# Altium footprint library common.PcbLib: 93 footprints (part 2 of 6)
Each footprint in its own frame and in the unit in brackets; x right, y up, seen from the top. Pads: shape width x height; smd on the part's side, far side on the other; paste and mask are expansions set on the pad; w line width, h text height; cw(c..) or ccw(c..) is an arc to the next point about the centre after c.
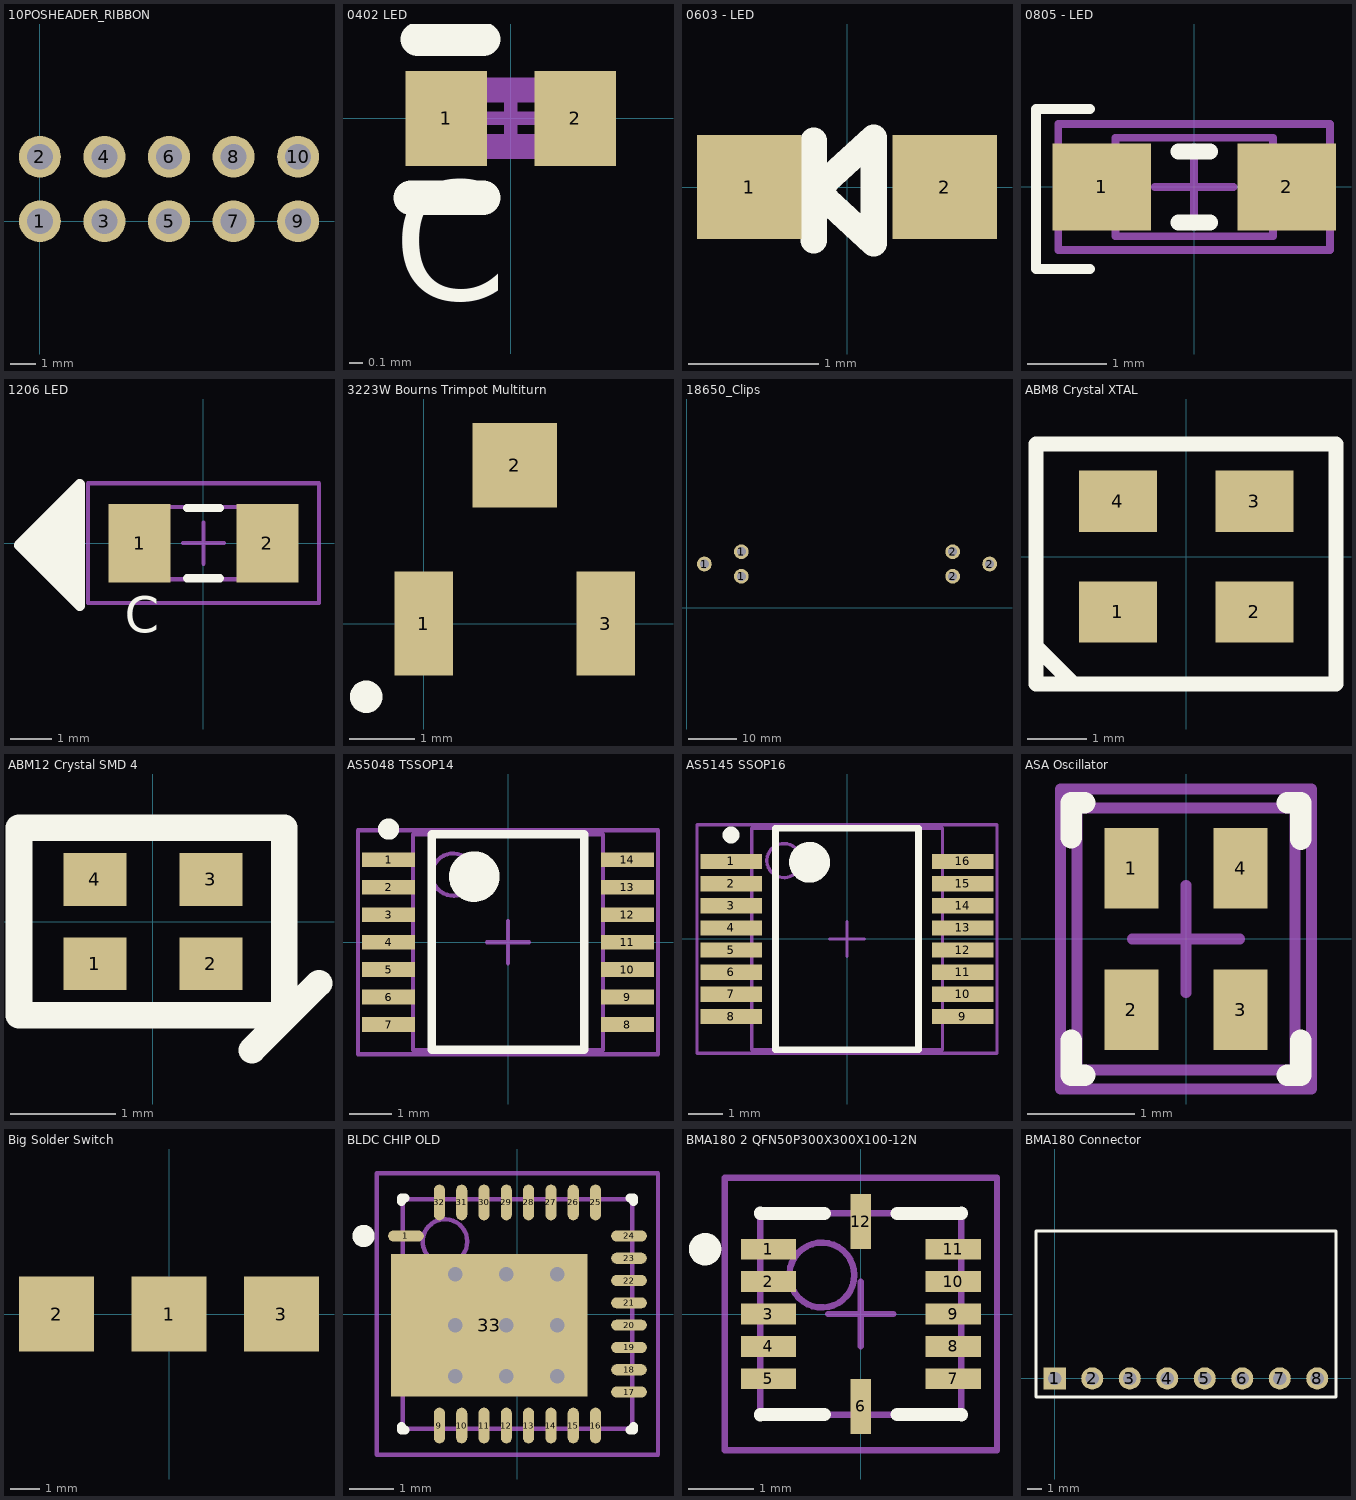
[diagram p1: the footprints below, top view; thin cyan lines are the x and y axes]

## 10POSHEADER_RIBBON [mm] "CONN HEADER 10POS Keyed Ribbon"
height 9
pads (10):
  round 1.65 hole 1.02: 1(0,0) 2(0,2.54) 3(2.54,0) 4(2.54,2.54) 5(5.08,0) 6(5.08,2.54) 7(7.62,0) 8(7.62,2.54) 9(10.16,0) 10(10.16,2.54)
3D body: height 9.02, standoff -3.13, extent -5.11,-3.057 15.24,5.943

## 0402 LED [mm] "0402 LED Package"
height 0.25
pads (2):
  rect 0.6x0.7 smd: 1(-0.475,0) 2(0.475,0)
Top Overlay:
  lines w0.254: -0.737,-0.584 -0.203,-0.584 ; -0.686,0.584 -0.203,0.584
  text "C" at -0.864,-1.626 h1.5
Mechanical 13:
  lines w0.1: -0.315,-0.165 0.315,-0.165 0.315,0.165 -0.315,0.165 -0.315,-0.165
Mechanical 15:
  lines w0.1: -0.165,0 0.165,0 ; 0,-0.165 0,0.165 ; -0.7,-0.25 0.7,-0.25 0.7,0.25 -0.7,0.25 -0.7,-0.25
3D body: height 0.3, standoff 0, extent -0.508,-0.254 0.508,0.254

## 0603 - LED [mm]
pads (2):
  rect 0.8x0.8 smd: 1(-0.75,0) 2(0.75,0)
Top Overlay:
  lines w0.203: -0.254,-0.406 -0.254,0.356 ; -0.152,-0.102 0.203,-0.43 0.203,0.379 -0.152,0.051

## 0805 - LED [mm] "0805 LED"
height 0.8
pads (2):
  rect 1.25x1.1 smd: 1(-1.175,0) 2(1.175,0)
Top Overlay:
  lines w0.127: -1.321,-1.041 -2.007,-1.041 -2.007,0.991 -1.321,0.991
  lines w0.2: -0.2,-0.45 0.2,-0.45 ; -0.2,0.45 0.2,0.45
Mechanical 13:
  lines w0.1: -1,-0.625 -1,0.625 1,0.625 1,-0.625 -1,-0.625
Mechanical 15:
  lines w0.1: -0.5,0 0.5,0 ; 0,-0.5 0,0.5 ; -1.725,-0.8 -1.725,0.8 1.725,0.8 1.725,-0.8 -1.725,-0.8
3D body: height 0.8, standoff 0, extent -1,-0.625 1,0.625

## 1206 LED [mm] "1206 LED"
height 0.71
pads (2):
  rect 1.5x1.9 smd: 1(-1.55,0) 2(1.55,0)
Top Overlay:
  pour cut-out: -2.997,-1.524 -2.997,1.422 -4.445,-0.025
  region: -3.048,-1.473 -2.997,-1.422 -2.997,1.422 -4.47,-0.051
  lines w0.2: -0.4,-0.85 0.4,-0.85 ; -0.4,0.85 0.4,0.85
  lines w0.254: -4.47,-0.051 -2.997,1.422 -2.997,-1.524 -4.445,-0.076 -4.445,-0.025
  text "C" at -1.905,-2.464 h1.5
Mechanical 13:
  lines w0.1: -1.675,-0.875 1.675,-0.875 1.675,0.875 -1.675,0.875 -1.675,-0.875
Mechanical 15:
  lines w0.1: -0.5,0 0.5,0 ; 0,-0.5 0,0.5 ; -2.8,-1.45 2.8,-1.45 2.8,1.45 -2.8,1.45 -2.8,-1.45
3D body: height 0.71, standoff 0, extent -1.675,-0.875 1.675,0.875

## 3223W Bourns Trimpot Multiturn [mm]
height 4
pads (3):
  rect 0.9x1.6 smd: 1(0,0) 3(2.8,0)
  rect 1.3x1.3 smd: 2(1.4,2.43)
Top Overlay:
  circle w0.25: c-0.884,-1.126 r0.125
3D body: height 4.19, standoff 0.02, extent -0.551,-0.635 3.345,2.88

## 18650_Clips [mil] "18650 Battery Clips"
height 787.4
pads (6):
  round 120 hole 72.05: 1(141.96,356.33) 1(441.96,256.33) 1(441.96,456.33) 2(2158.04,256.33) 2(2158.04,456.33) 2(2458.04,356.33)
3D body: height 721.26, standoff -119.4, extent 2088.04,0 2600,712.66
3D body: height 721.26, standoff -119.4, extent 0,0 511.96,712.66
3D body: height 755.91, standoff 31.5, extent 15.47,-5 2574.53,719.41

## ABM8 Crystal XTAL [mil] "SMD Crystal XTAL"
height 31
pads (4):
  rect 52x41 all layers, no hole: 1(-45.5,-37) 2(45.5,-37) 3(45.5,37) 4(-45.5,37)
Top Overlay:
  lines w10: -100,-60 -75,-85 ; -100,-85 100,-85 100,75 -100,75 -100,-85

## ABM12 Crystal SMD 4 [mm] "SMD Crystal XTAL"
height 0.4
pads (4):
  rect 0.6x0.5 all layers, no hole: 1(-0.55,-0.4) 2(0.55,-0.4) 3(0.55,0.4) 4(-0.55,0.4)
Top Overlay:
  lines w0.254: 0.94,-1.219 1.575,-0.584 ; -1.27,-0.889 1.245,-0.889 1.245,0.889 -1.27,0.889 -1.27,-0.889

## AS5048 TSSOP14 [mm] "TSOP, 14-Leads, Body 5.1x4.5mm (max), Pitch 0.65mm, IPC High Density"
height 1.2
pads (14):
  rect 1.25x0.35 smd: 1(-2.825,1.95) 2(-2.825,1.3) 3(-2.825,0.65) 4(-2.825,0) 5(-2.825,-0.65) 6(-2.825,-1.3) 7(-2.825,-1.95) 8(2.825,-1.95) 9(2.825,-1.3) 10(2.825,-0.65) 11(2.825,0) 12(2.825,0.65) 13(2.825,1.3) 14(2.825,1.95)
Top Overlay:
  circle w0.25: c-2.825,2.675 r0.125
  circle w0.6: c-0.8,1.55 r0.3
  lines w0.2: -1.8,-2.55 -1.8,2.55 1.8,2.55 1.8,-2.55 -1.8,-2.55
Mechanical 13:
  circle w0.1: c-1.3,1.6 r0.5
  lines w0.1: -2.25,-2.55 -2.25,2.55 2.25,2.55 2.25,-2.55 -2.25,-2.55
Mechanical 15:
  lines w0.1: -0.5,0 0.5,0 ; 0,-0.5 0,0.5 ; -3.55,-2.65 -3.55,2.65 3.55,2.65 3.55,-2.65 -3.55,-2.65
3D body: height 1.2, standoff 0.05, extent -2.25,-2.55 2.25,2.55

## AS5145 SSOP16 [mm] "SOP, 16-Leads, Body 6.5x5.6mm (max), Pitch 0.65mm, IPC High Density"
height 1.99
pads (16):
  rect 1.8x0.45 smd: 1(-3.4,2.275) 2(-3.4,1.625) 3(-3.4,0.975) 4(-3.4,0.325) 5(-3.4,-0.325) 6(-3.4,-0.975) 7(-3.4,-1.625) 8(-3.4,-2.275) 9(3.4,-2.275) 10(3.4,-1.625) 11(3.4,-0.975) 12(3.4,-0.325) 13(3.4,0.325) 14(3.4,0.975) 15(3.4,1.625) 16(3.4,2.275)
Top Overlay:
  circle w0.6: c-1.1,2.25 r0.3
  circle w0.25: c-3.4,3.05 r0.125
  lines w0.2: -2.1,-3.25 2.1,-3.25 2.1,3.25 -2.1,3.25 -2.1,-3.25
Mechanical 13:
  circle w0.1: c-1.85,2.3 r0.5
  lines w0.1: -2.8,-3.25 2.8,-3.25 2.8,3.25 -2.8,3.25 -2.8,-3.25
Mechanical 15:
  lines w0.1: -0.5,0 0.5,0 ; 0,-0.5 0,0.5 ; -4.4,-3.35 4.4,-3.35 4.4,3.35 -4.4,3.35 -4.4,-3.35
3D body: height 1.99, standoff 0.21, extent -2.8,-3.25 2.8,3.25

## ASA Oscillator [mm] "ASA Abracon Oscillator"
height 0.8
pads (4):
  rect 0.5x0.75 smd: 1(-0.508,0.66) 2(-0.508,-0.66) 3(0.508,-0.66) 4(0.508,0.66)
Top Overlay:
  lines w0.2: -1.067,-0.945 -1.067,-1.27 -0.942,-1.27 ; -1.067,0.945 -1.067,1.27 -0.942,1.27 ; 0.942,-1.27 1.067,-1.27 1.067,-0.945 ; 0.942,1.27 1.067,1.27 1.067,0.931
Mechanical 13:
  lines w0.1: -1.016,-1.219 -1.016,1.219 1.016,1.219 1.016,-1.219 -1.016,-1.219
Mechanical 15:
  lines w0.1: -0.5,0 0.5,0 ; 0,-0.5 0,0.5 ; -1.168,-1.397 1.168,-1.397 1.168,1.397 -1.168,1.397 -1.168,-1.397
3D body: height 0.8, standoff 0, extent -0.8,-1 0.8,1

## Big Solder Switch [mm]
pads (3):
  rect 2.54x2.54 smd: 1(0,0) 2(-3.81,0) 3(3.81,0)

## BLDC CHIP OLD [mm] "QFN, 32-Leads, Body 5.2x5.2mm (max), Pitch 0.50mm, IPC Medium Density"
height 0.95
pads (26):
  oval 0.8x0.25 smd: 1(-2.5,1.75) 17(2.5,-1.75) 18(2.5,-1.25) 19(2.5,-0.75) 20(2.5,-0.25) 21(2.5,0.25) 22(2.5,0.75) 23(2.5,1.25) 24(2.5,1.75)
  oval 0.25x0.8 smd: 9(-1.75,-2.5) 10(-1.25,-2.5) 11(-0.75,-2.5) 12(-0.25,-2.5) 13(0.25,-2.5) 14(0.75,-2.5) 15(1.25,-2.5) 16(1.75,-2.5) 25(1.75,2.5) 26(1.25,2.5) 27(0.75,2.5) 28(0.25,2.5) 29(-0.25,2.5) 30(-0.75,2.5) 31(-1.25,2.5) 32(-1.75,2.5)
  rect 4.4x3.2 smd: 33(-0.635,-0.254)
via -0.254,0.889 diameter 0.66 hole 0.33
via 0.889,0.889 diameter 0.66 hole 0.33
via -1.397,-1.397 diameter 0.66 hole 0.33
via -0.254,-0.254 diameter 0.66 hole 0.33
via -0.254,-1.397 diameter 0.66 hole 0.33
via 0.889,-1.397 diameter 0.66 hole 0.33
via 0.889,-0.254 diameter 0.66 hole 0.33
via -1.397,0.889 diameter 0.66 hole 0.33
via -1.397,-0.254 diameter 0.66 hole 0.33
Top Overlay:
  circle w0.25: c-3.45,1.75 r0.125
  lines w0.2: -2.6,-2.525 -2.6,-2.6 -2.525,-2.6 ; -2.6,2.525 -2.6,2.6 -2.525,2.6 ; 2.525,-2.6 2.6,-2.6 2.6,-2.525 ; 2.525,2.6 2.6,2.6 2.6,2.525
Mechanical 13:
  circle w0.1: c-1.625,1.625 r0.5
  lines w0.1: -2.575,-2.575 -2.575,2.575 2.575,2.575 2.575,-2.575 -2.575,-2.575
Mechanical 15:
  lines w0.1: -0.5,0 0.5,0 ; 0,-0.5 0,0.5 ; -3.15,-3.15 -3.15,3.15 3.15,3.15 3.15,-3.15 -3.15,-3.15
3D body: height 0.95, standoff 0.01, extent -2.54,-2.61 2.61,2.54

## BMA180 2 QFN50P300X300X100-12N [mm] "QFN, 12-Leads, Body 3.1x3.1mm (max), Pitch 0.50mm, IPC Medium Density"
height 1
pads (12):
  rect 0.85x0.32 smd: 1(-1.425,1) 2(-1.425,0.5) 3(-1.425,0) 4(-1.425,-0.5) 5(-1.425,-1) 7(1.425,-1) 8(1.425,-0.5) 9(1.425,0) 10(1.425,0.5) 11(1.425,1)
  rect 0.32x0.85 smd: 6(0,-1.425) 12(0,1.425)
Top Overlay:
  circle w0.25: c-2.4,1 r0.125
  lines w0.2: -1.55,-1.56 -1.55,-1.55 -0.56,-1.55 ; -1.55,1.56 -1.55,1.55 -0.56,1.55 ; 0.56,-1.55 1.55,-1.55 1.55,-1.56 ; 0.56,1.55 1.55,1.55 1.55,1.56
Mechanical 13:
  circle w0.1: c-0.6,0.6 r0.5
  lines w0.1: -1.55,-1.55 1.55,-1.55 1.55,1.55 -1.55,1.55 -1.55,-1.55
Mechanical 15:
  lines w0.1: -0.5,0 0.5,0 ; 0,-0.5 0,0.5 ; -2.1,-2.1 2.1,-2.1 2.1,2.1 -2.1,2.1 -2.1,-2.1
3D body: height 1, standoff 0.2, extent -1.55,-1.55 1.55,1.55

## BMA180 Connector [mm] "Connector; Header; 8 Position"
pads (8):
  rect 1.5x1.5 hole 0.9: 1(0,0)
  round 1.5 hole 0.9: 2(2.54,0) 3(5.08,0) 4(7.62,0) 5(10.16,0) 6(12.7,0) 7(15.24,0) 8(17.78,0)
Top Overlay:
  lines w0.2: -1.27,-1.27 19.05,-1.27 19.05,10 -1.27,10 -1.27,-1.27